# Altium integrated library MAX20361AEWC.IntLib: 1 symbol
Pins are listed as number, name and electrical type; pins without a type are passive.

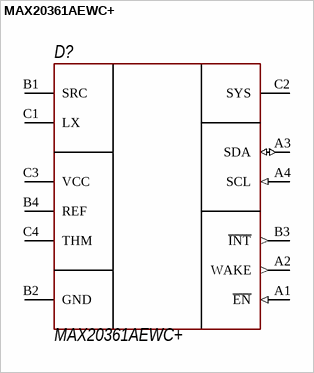
[diagram p0: symbol MAX20361AEWC+]

## MAX20361AEWC+
designator D?
Solar Harvester with MPPT; Manufacture: Maxim Integrated; Model: MAX20361AEWC+; HelpURL: https://datasheets.maximintegrated.com/en/ds/MAX20361.pdf; ComponentKind: 12-WLP (1.63x1.23)
footprint 12-WLP (1.63x1.23)
pins: A1 ~{EN} (in) "Active Low Enable Input.", A2 WAKE (out) "Wake Signal for System MCU.", A3 SDA (io) "I2C Serial Data.", A4 SCL (in) "I2C Serial Clock", B1 SRC (power) "Source Input.", B2 GND (power) "Ground.", B3 ~{INT} (out) "Open-Drain Interrupt Output.", B4 REF (power) "Internal-Voltage Reference.", C1 LX (power) "Boost-Converter Switching Node.", C2 SYS (power) "System Output.", C3 VCC (power) "Internal Supply.", C4 THM (power) "Thermistor Input."